# EAGLE library part LS7184 (library optocoupler-jlb)
Encoder to Counter Interface Source: http://www.usdigital.com/products/ls7183-ls7184/ls7183 ls7184 Data Sheet.pdf
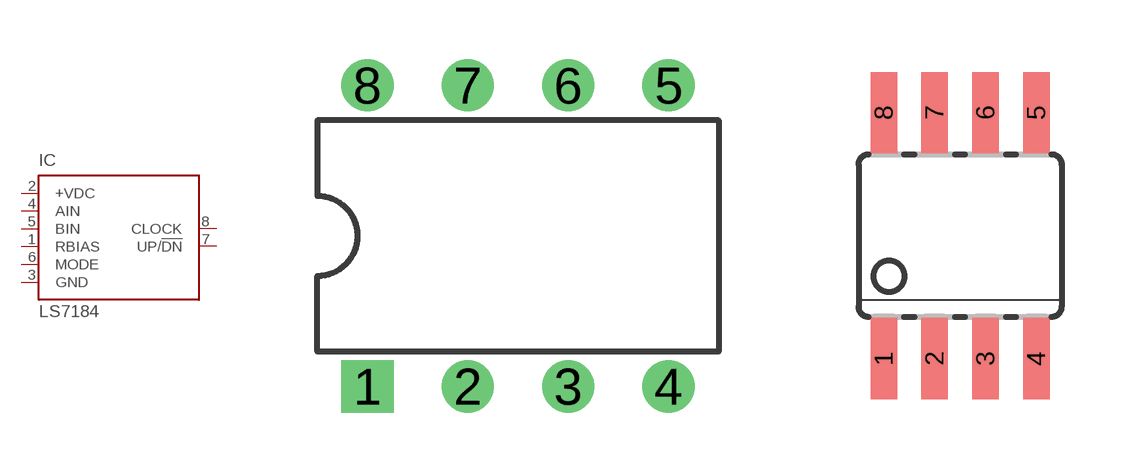
[diagram p43: symbol with the pads of DIL08; footprints DIL08, SOIC08]

Designator prefix IC

## LS7184-DIP (OC_FARNELL: unknown; OC_NEWARK: unknown)  [DIL08]
1  RBIAS  in
2  +VDC  in
3  GND  pwr
4  AIN  in
5  BIN  in
6  MODE  in
7  UP/!DN  in
8  CLOCK  in

## LS7184-SOIC (OC_FARNELL: unknown; OC_NEWARK: unknown)  [SOIC08]
Pads as for DIL08

## Footprint DIL08 (pad centres in mm)
Dual In Line Package
drill 0.813 square: 1 -3.81,-3.81
drill 0.813: 2 -1.27,-3.81; 3 1.27,-3.81; 4 3.81,-3.81; 5 3.81,3.81; 6 1.27,3.81; 7 -1.27,3.81; 8 -3.81,3.81

## Footprint SOIC08 (pad centres in mm)
Small Outline Package
smd 0.66 x 2.032: 1 -1.905,-3.073; 2 -0.635,-3.073; 3 0.635,-3.073; 4 1.905,-3.073; 5 1.905,3.073; 6 0.635,3.073; 7 -0.635,3.073; 8 -1.905,3.073